# EAGLE library part AD5259BRMZ5 (library AD5259)
Nonvolatile, I2C-Compatible 256-Position, Digital Potentiometer
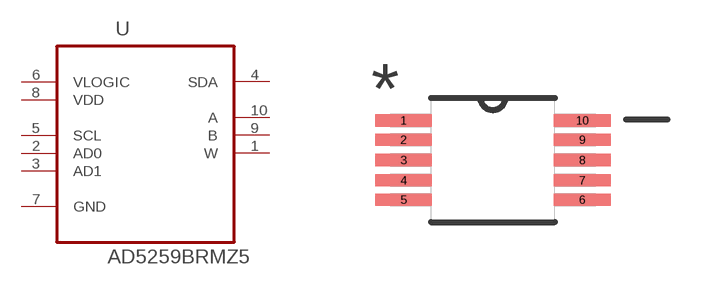
[diagram p0: symbol with the pads of SOP50P490X110-10N; footprint SOP50P490X110-10N]

Designator prefix U

## AD5259BRMZ5 (MPN: AD5259BRMZ5; OC_FARNELL: 1117916; OC_NEWARK: 59K3813; PACKAGE: MSOP-10; SUPPLIER: Analog Devices)  [SOP50P490X110-10N]
1  W  pas
2  AD0  in
3  AD1  in
4  SDA
5  SCL  in
6  VLOGIC  pwr
7  GND  pas
8  VDD  pwr
9  B  pas
10  A  pas

## Footprint SOP50P490X110-10N (pad centres in mm)
smd 1.422 x 0.305: 1 -2.235,0.991; 2 -2.235,0.508; 3 -2.235,0; 4 -2.235,-0.508; 5 -2.235,-0.991; 6 2.235,-0.991; 7 2.235,-0.508; 8 2.235,0; 9 2.235,0.508; 10 2.235,0.991